# Altium schematic symbol library Schlib_ampli.SchLib: 1 symbol
Pins are listed as number, name and electrical type; pins without a type are passive.

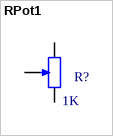
[diagram p0: symbol RPot1]

## RPot1
designator R?  value 1K  (hidden comment: RPot1)
Potentiometer; Sim Note: Enter the Resistance value and the set point into parameter fields.; Set Position: 0.5; Published: 8-Jun-2000; LatestRevisionDate: 17-Jul-2002; LatestRevisionNote: Re-released for DXP Platform.; PackageReference: VR5; Publisher: Altium Limited
simulation model POT (Potentiometer)
footprint AJUSTABLE
footprint Trimmer_MultiTour
footprint Trimmer_1tour
footprint Trimmer_MultiTour_Alignees
footprint Potentiometre
pins: 1, 2, 3
1 alternate drawing of the same symbol